# EAGLE library part HEF4052B (library ruark2)
Dual 4 Channel Analog Multiplexer
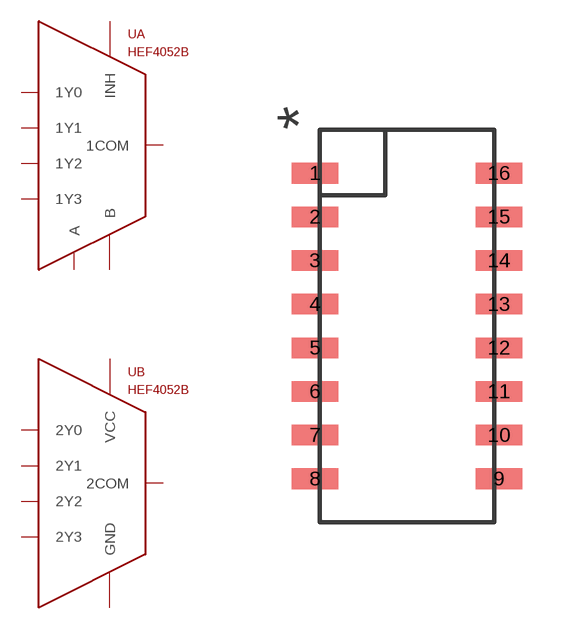
[diagram p34: symbol with the pads of SO16; footprint SO16]

Designator prefix U; gates A=MUX_4_1 B=MUX_4_1_PWR

## HEF4052B (PARTNO: 1727-6411-1-ND)  [SO16]
1  B:2Y0  pas
2  B:2Y2  pas
3  B:2COM  pas
4  B:2Y3  pas
5  B:2Y1  pas
6  A:INH  pas
7  B:GND  pas
8  B:GND  pas
9  A:B  pas
10  A:A  pas
11  A:1Y3  pas
12  A:1Y0  pas
13  A:1COM  pas
14  A:1Y1  pas
15  A:1Y2  pas
16  B:VCC  pas

## Footprint SO16 (pad centres in mm)
smd 1.35 x 0.6: 1 -2.215,5.62; 2 -2.215,4.35; 3 -2.215,3.08; 4 -2.215,1.81; 5 -2.215,0.54; 6 -2.215,-0.73; 7 -2.215,-2; 8 -2.215,-3.27; 9 3.135,-3.27; 10 3.135,-2; 11 3.135,-0.73; 12 3.135,0.54; 13 3.135,1.81; 14 3.135,3.08; 15 3.135,4.35; 16 3.135,5.62